# Altium integrated library iseloodud_mootori_draiver.IntLib: 1 symbol
Pins are listed as number, name and electrical type; pins without a type are passive.

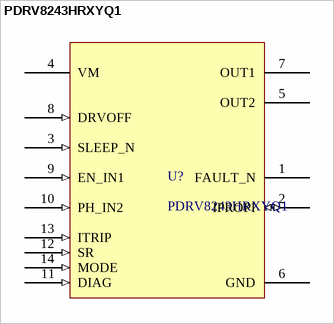
[diagram p0: symbol PDRV8243HRXYQ1]

## PDRV8243HRXYQ1
designator U?
footprint PDRV8243HRXYQ1
pins: 1 FAULT_N, 2 IPROPI (io), 3 SLEEP_N (in), 4 VM, 5 OUT2, 6 GND, 7 OUT1, 8 DRVOFF (in), 9 EN_IN1 (in), 10 PH_IN2 (in), 11 DIAG (in), 12 SR (in), 13 ITRIP (in), 14 MODE (in)